# EAGLE library part IX4427 (library IXYS)
IC MOSFET DVR NONINV 1.5A
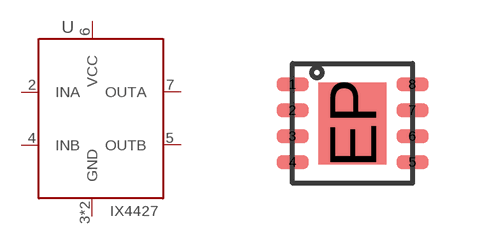
[diagram p0: symbol with the pads of VDFN-8(DFN8-3X3); footprint VDFN-8(DFN8-3X3)]

Designator prefix U

## IX4427 (DIGIKEY: CLA4151CT-ND; MFR: IXYS Integrated Circuits; MPN: IX4427MTR; P1I: o)  [VDFN-8(DFN8-3X3)]
2  INA
3  GND
4  INB
5  OUTB
6  VCC
7  OUTA
EP  GND

## Footprint VDFN-8(DFN8-3X3) (pad centres in mm)
smd 0.8 x 0.35: 1 -1.5,0.975; 2 -1.5,0.325; 3 -1.5,-0.325; 4 -1.5,-0.975; 5 1.5,-0.975; 6 1.5,-0.325; 7 1.5,0.325; 8 1.5,0.975
smd 1.7 x 2.05: EP 0,0